# Altium schematic symbol library VD.SchLib: 9 symbols
Pins are listed as number, name and electrical type; pins without a type are passive.

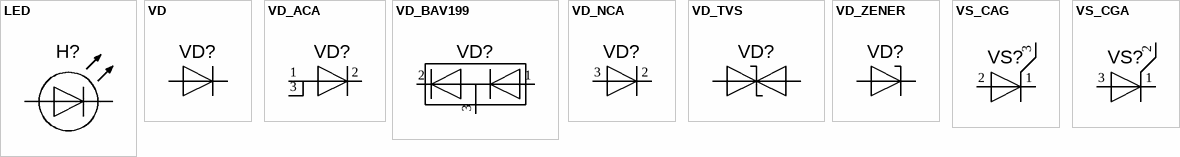
[diagram p0: symbols LED to VS_CGA]

## LED
designator H?
pins: 1 A, 2 C

## VD
designator VD?
pins: 1 A, 2 C

## VD_ACA
designator VD?
pins: 1 A, 2 C, 3 A

## VD_BAV199
designator VD?
pins: 1, 2, 3

## VD_NCA
designator VD?
pins: 2 C, 3 A

## VD_TVS
designator VD?
pins: 1, 2

## VD_ZENER
designator VD?
pins: 1 A, 2 C

## VS_CAG
designator VS?
pins: 1 C, 2 A, 3 G

## VS_CGA
designator VS?
pins: 1 C, 2 G, 3 A